# EAGLE library part IDT71V424S (library P1001-001-310 - Eagle Library)
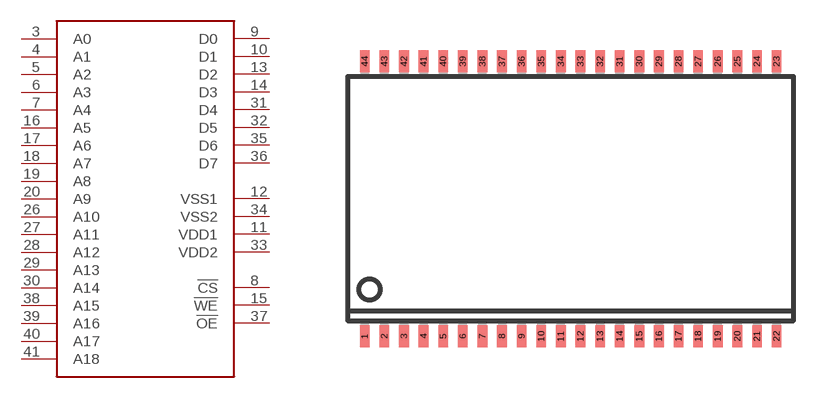
[diagram p3: symbol with the pads of TSOP44-II; footprint TSOP44-II]

Designator prefix -

## IDT71V424S  [TSOP44-II]
3  A0
4  A1
5  A2
6  A3
7  A4
8  !CS
9  D0
10  D1
11  VDD1
12  VSS1
13  D2
14  D3
15  !WE
16  A5
17  A6
18  A7
19  A8
20  A9
26  A10
27  A11
28  A12
29  A13
30  A14
31  D4
32  D5
33  VDD2
34  VSS2
35  D6
36  D7
37  !OE
38  A15
39  A16
40  A17
41  A18

## Footprint TSOP44-II (pad centres in mm)
44 lead Plastic Thin Small Outline Type II Source: http://us.st.com/stonline/products/literature/ds/7995.pdf
smd 0.4 x 0.9: 1 -8.4,-5.6; 2 -7.6,-5.6; 3 -6.8,-5.6; 4 -6,-5.6; 5 -5.2,-5.6; 6 -4.4,-5.6; 7 -3.6,-5.6; 8 -2.8,-5.6; 9 -2,-5.6; 10 -1.2,-5.6; 11 -0.4,-5.6; 12 0.4,-5.6; 13 1.2,-5.6; 14 2,-5.6; 15 2.8,-5.6; 16 3.6,-5.6; 17 4.4,-5.6; 18 5.2,-5.6; 19 6,-5.6; 20 6.8,-5.6; 21 7.6,-5.6; 22 8.4,-5.6; 23 8.4,5.6; 24 7.6,5.6; 25 6.8,5.6; 26 6,5.6; 27 5.2,5.6; 28 4.4,5.6; 29 3.6,5.6; 30 2.8,5.6; 31 2,5.6; 32 1.2,5.6; 33 0.4,5.6; 34 -0.4,5.6; 35 -1.2,5.6; 36 -2,5.6; 37 -2.8,5.6; 38 -3.6,5.6; 39 -4.4,5.6; 40 -5.2,5.6; 41 -6,5.6; 42 -6.8,5.6; 43 -7.6,5.6; 44 -8.4,5.6